# Altium integrated library Linear Technology Power Management Power Control.IntLib: 661 symbols (part 13 of 43)
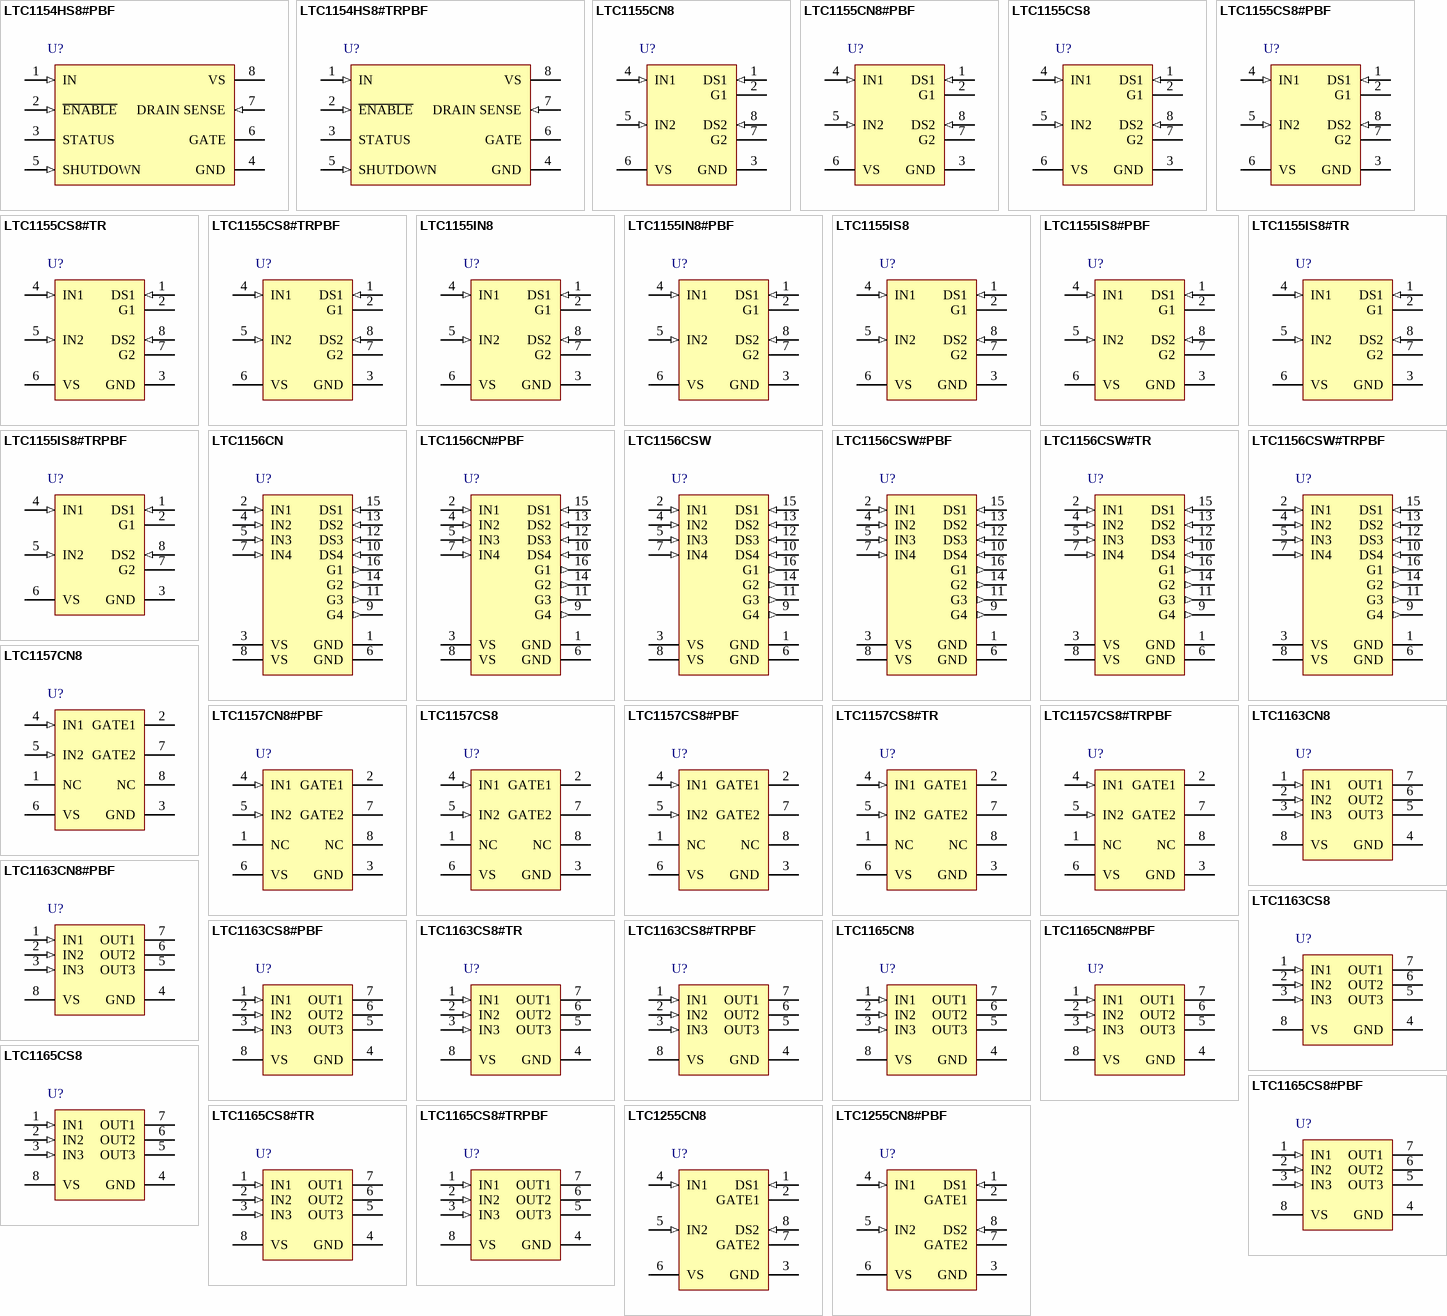
[diagram p31: symbols LTC1154HS8#PBF to LTC1255CN8#PBF]

## LTC1155CS8
designator U?
Dual High Side Micropower MOSFET Driver, 4.5 to 18 V Vin, 8-pin SOIC (S8-8), 0 to 70 degC; Manufacturer: Linear Technology; PartNumber: LTC1155CS8; DatasheetVersion: Rev. B; PackageVersion: Rev. G, 03/2012; PackageReference: S8-8; PackageDescription: 8-Pin Plastic Small Outline (Narrow .150 Inch), Body 4.9 x 3.9 mm, Pitch 1.27 mm; Supplier 1: Digi-Key; Supplier Part Number 1: LTC1155CS8-ND; Supplier 2: Newark; Supplier Part Number 2: 55M9441; RoHS: FALSE; Mounting Technology: Surface Mount; ComponentLink1Description: Manufacturer URL; ComponentLink1URL: http://www.linear.com/; ComponentLink2Description: Datasheet; ComponentLink2URL: http://cds.linear.com/docs/en/datasheet/1155fb.pdf; ComponentLink3Description: Package Specification; ComponentLink3URL: http://cds.linear.com/docs/en/packaging/05081610_G_SO8.pdf
footprint LT-S8-8_N (SOIC, 8-Leads, Body 5x4mm, Pitch 1.27mm, IPC Medium Density)
footprint LT-S8-8_L (SOIC, 8-Leads, Body 5x4mm, Pitch 1.27mm, IPC High Density)
footprint LT-S8-8_M (SOIC, 8-Leads, Body 5x4mm, Pitch 1.27mm, IPC Low Density)
pins: 1 DS1 (in) "As noted previously, the drain sense pin is compared against the supply pin voltage. If the voltage at this pin is more than 100mV below the supply pin, the input latch will be reset and the MOSFET gate will be quickly (See Datasheet)", 2 G1 (hiz) "The gate drive pin is either driven to ground when the switch is turned OFF or driven above the supply rail when the switch is turned ON. This pin is a relatively high impedance when driven above the rail (the equivalent of (See Datasheet)", 3 GND (power) "The supply pin of the LTC1155 serves two vital purposes. The first is obvious: it powers the input, gate drive, regulation and protection circuitry. The second purpose is less obvious: it provides a Kelvin connection to the (See Datasheet)", 4 IN1 (in) "The LTC1155 logic input is a high impedance CMOS gate and should be grounded when not in use. These input pins have ESD protection diodes to ground and supply and, therefore, should not be forced beyond the power supply (See Datasheet)", 5 IN2 (in) "The LTC1155 logic input is a high impedance CMOS gate and should be grounded when not in use. These input pins have ESD protection diodes to ground and supply and, therefore, should not be forced beyond the power supply (See Datasheet)", 6 VS (power) "The supply pin of the LTC1155 serves two vital purposes. The first is obvious: it powers the input, gate drive, regulation and protection circuitry. The second purpose is less obvious: it provides a Kelvin connection to the (See Datasheet)", 7 G2 (hiz) "The gate drive pin is either driven to ground when the switch is turned OFF or driven above the supply rail when the switch is turned ON. This pin is a relatively high impedance when driven above the rail (the equivalent of (See Datasheet)", 8 DS2 (in) "As noted previously, the drain sense pin is compared against the supply pin voltage. If the voltage at this pin is more than 100mV below the supply pin, the input latch will be reset and the MOSFET gate will be quickly (See Datasheet)"

## LTC1155CS8#PBF
designator U?
Dual High Side Micropower MOSFET Driver, 4.5 to 18 V Vin, 8-pin SOIC (S8-8), 0 to 70 degC, Pb-Free; Manufacturer: Linear Technology; PartNumber: LTC1155CS8#PBF; DatasheetVersion: Rev. B; PackageVersion: Rev. G, 03/2012; PackageReference: S8-8; PackageDescription: 8-Pin Plastic Small Outline (Narrow .150 Inch), Body 4.9 x 3.9 mm, Pitch 1.27 mm; Supplier 1: Digi-Key; Supplier Part Number 1: LTC1155CS8#PBF-ND; Supplier 2: Farnell; Supplier Part Number 2: 1273506; Supplier 3: Newark; Supplier Part Number 3: 55M9442; RoHS: TRUE; Mounting Technology: Surface Mount; ComponentLink1Description: Manufacturer URL; ComponentLink1URL: http://www.linear.com/; ComponentLink2Description: Datasheet; ComponentLink2URL: http://cds.linear.com/docs/en/datasheet/1155fb.pdf; ComponentLink3Description: Package Specification; ComponentLink3URL: http://cds.linear.com/docs/en/packaging/05081610_G_SO8.pdf
footprint LT-S8-8_N (SOIC, 8-Leads, Body 5x4mm, Pitch 1.27mm, IPC Medium Density)
footprint LT-S8-8_L (SOIC, 8-Leads, Body 5x4mm, Pitch 1.27mm, IPC High Density)
footprint LT-S8-8_M (SOIC, 8-Leads, Body 5x4mm, Pitch 1.27mm, IPC Low Density)
pins: 1 DS1 (in) "As noted previously, the drain sense pin is compared against the supply pin voltage. If the voltage at this pin is more than 100mV below the supply pin, the input latch will be reset and the MOSFET gate will be quickly (See Datasheet)", 2 G1 (hiz) "The gate drive pin is either driven to ground when the switch is turned OFF or driven above the supply rail when the switch is turned ON. This pin is a relatively high impedance when driven above the rail (the equivalent of (See Datasheet)", 3 GND (power) "The supply pin of the LTC1155 serves two vital purposes. The first is obvious: it powers the input, gate drive, regulation and protection circuitry. The second purpose is less obvious: it provides a Kelvin connection to the (See Datasheet)", 4 IN1 (in) "The LTC1155 logic input is a high impedance CMOS gate and should be grounded when not in use. These input pins have ESD protection diodes to ground and supply and, therefore, should not be forced beyond the power supply (See Datasheet)", 5 IN2 (in) "The LTC1155 logic input is a high impedance CMOS gate and should be grounded when not in use. These input pins have ESD protection diodes to ground and supply and, therefore, should not be forced beyond the power supply (See Datasheet)", 6 VS (power) "The supply pin of the LTC1155 serves two vital purposes. The first is obvious: it powers the input, gate drive, regulation and protection circuitry. The second purpose is less obvious: it provides a Kelvin connection to the (See Datasheet)", 7 G2 (hiz) "The gate drive pin is either driven to ground when the switch is turned OFF or driven above the supply rail when the switch is turned ON. This pin is a relatively high impedance when driven above the rail (the equivalent of (See Datasheet)", 8 DS2 (in) "As noted previously, the drain sense pin is compared against the supply pin voltage. If the voltage at this pin is more than 100mV below the supply pin, the input latch will be reset and the MOSFET gate will be quickly (See Datasheet)"

## LTC1155CS8#TR
designator U?
Dual High Side Micropower MOSFET Driver, 4.5 to 18 V Vin, 8-pin SOIC (S8-8), 0 to 70 degC, Tape and Reel; Manufacturer: Linear Technology; PartNumber: LTC1155CS8#TR; DatasheetVersion: Rev. B; PackageVersion: Rev. G, 03/2012; PackageReference: S8-8; PackageDescription: 8-Pin Plastic Small Outline (Narrow .150 Inch), Body 4.9 x 3.9 mm, Pitch 1.27 mm; Supplier 1: Digi-Key; Supplier Part Number 1: LTC1155CS8#TR-ND; Supplier 2: Newark; Supplier Part Number 2: 55M9443; Packing: Tape and Reel; RoHS: FALSE; Mounting Technology: Surface Mount; ComponentLink1Description: Manufacturer URL; ComponentLink1URL: http://www.linear.com/; ComponentLink2Description: Datasheet; ComponentLink2URL: http://cds.linear.com/docs/en/datasheet/1155fb.pdf; ComponentLink3Description: Package Specification; ComponentLink3URL: http://cds.linear.com/docs/en/packaging/05081610_G_SO8.pdf
footprint LT-S8-8_N (SOIC, 8-Leads, Body 5x4mm, Pitch 1.27mm, IPC Medium Density)
footprint LT-S8-8_L (SOIC, 8-Leads, Body 5x4mm, Pitch 1.27mm, IPC High Density)
footprint LT-S8-8_M (SOIC, 8-Leads, Body 5x4mm, Pitch 1.27mm, IPC Low Density)
pins: 1 DS1 (in) "As noted previously, the drain sense pin is compared against the supply pin voltage. If the voltage at this pin is more than 100mV below the supply pin, the input latch will be reset and the MOSFET gate will be quickly (See Datasheet)", 2 G1 (hiz) "The gate drive pin is either driven to ground when the switch is turned OFF or driven above the supply rail when the switch is turned ON. This pin is a relatively high impedance when driven above the rail (the equivalent of (See Datasheet)", 3 GND (power) "The supply pin of the LTC1155 serves two vital purposes. The first is obvious: it powers the input, gate drive, regulation and protection circuitry. The second purpose is less obvious: it provides a Kelvin connection to the (See Datasheet)", 4 IN1 (in) "The LTC1155 logic input is a high impedance CMOS gate and should be grounded when not in use. These input pins have ESD protection diodes to ground and supply and, therefore, should not be forced beyond the power supply (See Datasheet)", 5 IN2 (in) "The LTC1155 logic input is a high impedance CMOS gate and should be grounded when not in use. These input pins have ESD protection diodes to ground and supply and, therefore, should not be forced beyond the power supply (See Datasheet)", 6 VS (power) "The supply pin of the LTC1155 serves two vital purposes. The first is obvious: it powers the input, gate drive, regulation and protection circuitry. The second purpose is less obvious: it provides a Kelvin connection to the (See Datasheet)", 7 G2 (hiz) "The gate drive pin is either driven to ground when the switch is turned OFF or driven above the supply rail when the switch is turned ON. This pin is a relatively high impedance when driven above the rail (the equivalent of (See Datasheet)", 8 DS2 (in) "As noted previously, the drain sense pin is compared against the supply pin voltage. If the voltage at this pin is more than 100mV below the supply pin, the input latch will be reset and the MOSFET gate will be quickly (See Datasheet)"

## LTC1155CS8#TRPBF
designator U?
Dual High Side Micropower MOSFET Driver, 4.5 to 18 V Vin, 8-pin SOIC (S8-8), 0 to 70 degC, Pb-Free, Tape and Reel; Manufacturer: Linear Technology; PartNumber: LTC1155CS8#TRPBF; DatasheetVersion: Rev. B; PackageVersion: Rev. G, 03/2012; PackageReference: S8-8; PackageDescription: 8-Pin Plastic Small Outline (Narrow .150 Inch), Body 4.9 x 3.9 mm, Pitch 1.27 mm; Supplier 1: Digi-Key; Supplier Part Number 1: LTC1155CS8#TRPBF-ND; Supplier 2: Newark; Supplier Part Number 2: 55M9444; Packing: Tape and Reel; RoHS: TRUE; Mounting Technology: Surface Mount; ComponentLink1Description: Manufacturer URL; ComponentLink1URL: http://www.linear.com/; ComponentLink2Description: Datasheet; ComponentLink2URL: http://cds.linear.com/docs/en/datasheet/1155fb.pdf; ComponentLink3Description: Package Specification; ComponentLink3URL: http://cds.linear.com/docs/en/packaging/05081610_G_SO8.pdf
footprint LT-S8-8_N (SOIC, 8-Leads, Body 5x4mm, Pitch 1.27mm, IPC Medium Density)
footprint LT-S8-8_L (SOIC, 8-Leads, Body 5x4mm, Pitch 1.27mm, IPC High Density)
footprint LT-S8-8_M (SOIC, 8-Leads, Body 5x4mm, Pitch 1.27mm, IPC Low Density)
pins: 1 DS1 (in) "As noted previously, the drain sense pin is compared against the supply pin voltage. If the voltage at this pin is more than 100mV below the supply pin, the input latch will be reset and the MOSFET gate will be quickly (See Datasheet)", 2 G1 (hiz) "The gate drive pin is either driven to ground when the switch is turned OFF or driven above the supply rail when the switch is turned ON. This pin is a relatively high impedance when driven above the rail (the equivalent of (See Datasheet)", 3 GND (power) "The supply pin of the LTC1155 serves two vital purposes. The first is obvious: it powers the input, gate drive, regulation and protection circuitry. The second purpose is less obvious: it provides a Kelvin connection to the (See Datasheet)", 4 IN1 (in) "The LTC1155 logic input is a high impedance CMOS gate and should be grounded when not in use. These input pins have ESD protection diodes to ground and supply and, therefore, should not be forced beyond the power supply (See Datasheet)", 5 IN2 (in) "The LTC1155 logic input is a high impedance CMOS gate and should be grounded when not in use. These input pins have ESD protection diodes to ground and supply and, therefore, should not be forced beyond the power supply (See Datasheet)", 6 VS (power) "The supply pin of the LTC1155 serves two vital purposes. The first is obvious: it powers the input, gate drive, regulation and protection circuitry. The second purpose is less obvious: it provides a Kelvin connection to the (See Datasheet)", 7 G2 (hiz) "The gate drive pin is either driven to ground when the switch is turned OFF or driven above the supply rail when the switch is turned ON. This pin is a relatively high impedance when driven above the rail (the equivalent of (See Datasheet)", 8 DS2 (in) "As noted previously, the drain sense pin is compared against the supply pin voltage. If the voltage at this pin is more than 100mV below the supply pin, the input latch will be reset and the MOSFET gate will be quickly (See Datasheet)"

## LTC1155IN8
designator U?
Dual High Side Micropower MOSFET Driver, 4.5 to 18 V Vin, 8-pin DIP (N8-8), -40 to 85 degC; Manufacturer: Linear Technology; PartNumber: LTC1155IN8; DatasheetVersion: Rev. B; PackageVersion: Rev. I, 07/2011; PackageReference: N8-8; PackageDescription: 8-Pin PDIP, Body 10.16 x 6.48 mm, Pitch 2.54 mm; Supplier 1: Digi-Key; Supplier Part Number 1: LTC1155IN8-ND; RoHS: FALSE; Mounting Technology: Through Hole; ComponentLink1Description: Manufacturer URL; ComponentLink1URL: http://www.linear.com/; ComponentLink2Description: Datasheet; ComponentLink2URL: http://cds.linear.com/docs/en/datasheet/1155fb.pdf; ComponentLink3Description: Package Specification; ComponentLink3URL: http://www.linear.com/docs/en/packaging/05081510_I_N8.pdf
footprint LT-N8-8 (DIP, 8-Leads, Body 10.15x6.85mm, Pitch 2.54mm)
pins: 1 DS1 (in) "As noted previously, the drain sense pin is compared against the supply pin voltage. If the voltage at this pin is more than 100mV below the supply pin, the input latch will be reset and the MOSFET gate will be quickly (See Datasheet)", 2 G1 (hiz) "The gate drive pin is either driven to ground when the switch is turned OFF or driven above the supply rail when the switch is turned ON. This pin is a relatively high impedance when driven above the rail (the equivalent of (See Datasheet)", 3 GND (power) "The supply pin of the LTC1155 serves two vital purposes. The first is obvious: it powers the input, gate drive, regulation and protection circuitry. The second purpose is less obvious: it provides a Kelvin connection to the (See Datasheet)", 4 IN1 (in) "The LTC1155 logic input is a high impedance CMOS gate and should be grounded when not in use. These input pins have ESD protection diodes to ground and supply and, therefore, should not be forced beyond the power supply (See Datasheet)", 5 IN2 (in) "The LTC1155 logic input is a high impedance CMOS gate and should be grounded when not in use. These input pins have ESD protection diodes to ground and supply and, therefore, should not be forced beyond the power supply (See Datasheet)", 6 VS (power) "The supply pin of the LTC1155 serves two vital purposes. The first is obvious: it powers the input, gate drive, regulation and protection circuitry. The second purpose is less obvious: it provides a Kelvin connection to the (See Datasheet)", 7 G2 (hiz) "The gate drive pin is either driven to ground when the switch is turned OFF or driven above the supply rail when the switch is turned ON. This pin is a relatively high impedance when driven above the rail (the equivalent of (See Datasheet)", 8 DS2 (in) "As noted previously, the drain sense pin is compared against the supply pin voltage. If the voltage at this pin is more than 100mV below the supply pin, the input latch will be reset and the MOSFET gate will be quickly (See Datasheet)"

## LTC1155IN8#PBF
designator U?
Dual High Side Micropower MOSFET Driver, 4.5 to 18 V Vin, 8-pin DIP (N8-8), -40 to 85 degC, Pb-Free; Manufacturer: Linear Technology; PartNumber: LTC1155IN8#PBF; DatasheetVersion: Rev. B; PackageVersion: Rev. I, 07/2011; PackageReference: N8-8; PackageDescription: 8-Pin PDIP, Body 10.16 x 6.48 mm, Pitch 2.54 mm; Supplier 1: Digi-Key; Supplier Part Number 1: LTC1155IN8#PBF-ND; RoHS: TRUE; Mounting Technology: Through Hole; ComponentLink1Description: Manufacturer URL; ComponentLink1URL: http://www.linear.com/; ComponentLink2Description: Datasheet; ComponentLink2URL: http://cds.linear.com/docs/en/datasheet/1155fb.pdf; ComponentLink3Description: Package Specification; ComponentLink3URL: http://www.linear.com/docs/en/packaging/05081510_I_N8.pdf
footprint LT-N8-8 (DIP, 8-Leads, Body 10.15x6.85mm, Pitch 2.54mm)
pins: 1 DS1 (in) "As noted previously, the drain sense pin is compared against the supply pin voltage. If the voltage at this pin is more than 100mV below the supply pin, the input latch will be reset and the MOSFET gate will be quickly (See Datasheet)", 2 G1 (hiz) "The gate drive pin is either driven to ground when the switch is turned OFF or driven above the supply rail when the switch is turned ON. This pin is a relatively high impedance when driven above the rail (the equivalent of (See Datasheet)", 3 GND (power) "The supply pin of the LTC1155 serves two vital purposes. The first is obvious: it powers the input, gate drive, regulation and protection circuitry. The second purpose is less obvious: it provides a Kelvin connection to the (See Datasheet)", 4 IN1 (in) "The LTC1155 logic input is a high impedance CMOS gate and should be grounded when not in use. These input pins have ESD protection diodes to ground and supply and, therefore, should not be forced beyond the power supply (See Datasheet)", 5 IN2 (in) "The LTC1155 logic input is a high impedance CMOS gate and should be grounded when not in use. These input pins have ESD protection diodes to ground and supply and, therefore, should not be forced beyond the power supply (See Datasheet)", 6 VS (power) "The supply pin of the LTC1155 serves two vital purposes. The first is obvious: it powers the input, gate drive, regulation and protection circuitry. The second purpose is less obvious: it provides a Kelvin connection to the (See Datasheet)", 7 G2 (hiz) "The gate drive pin is either driven to ground when the switch is turned OFF or driven above the supply rail when the switch is turned ON. This pin is a relatively high impedance when driven above the rail (the equivalent of (See Datasheet)", 8 DS2 (in) "As noted previously, the drain sense pin is compared against the supply pin voltage. If the voltage at this pin is more than 100mV below the supply pin, the input latch will be reset and the MOSFET gate will be quickly (See Datasheet)"

## LTC1155IS8
designator U?
Dual High Side Micropower MOSFET Driver, 4.5 to 18 V Vin, 8-pin SOIC (S8-8), -40 to 85 degC; Manufacturer: Linear Technology; PartNumber: LTC1155IS8; DatasheetVersion: Rev. B; PackageVersion: Rev. G, 03/2012; PackageReference: S8-8; PackageDescription: 8-Pin Plastic Small Outline (Narrow .150 Inch), Body 4.9 x 3.9 mm, Pitch 1.27 mm; Supplier 1: Digi-Key; Supplier Part Number 1: LTC1155IS8-ND; RoHS: FALSE; Mounting Technology: Surface Mount; ComponentLink1Description: Manufacturer URL; ComponentLink1URL: http://www.linear.com/; ComponentLink2Description: Datasheet; ComponentLink2URL: http://cds.linear.com/docs/en/datasheet/1155fb.pdf; ComponentLink3Description: Package Specification; ComponentLink3URL: http://cds.linear.com/docs/en/packaging/05081610_G_SO8.pdf
footprint LT-S8-8_N (SOIC, 8-Leads, Body 5x4mm, Pitch 1.27mm, IPC Medium Density)
footprint LT-S8-8_L (SOIC, 8-Leads, Body 5x4mm, Pitch 1.27mm, IPC High Density)
footprint LT-S8-8_M (SOIC, 8-Leads, Body 5x4mm, Pitch 1.27mm, IPC Low Density)
pins: 1 DS1 (in) "As noted previously, the drain sense pin is compared against the supply pin voltage. If the voltage at this pin is more than 100mV below the supply pin, the input latch will be reset and the MOSFET gate will be quickly (See Datasheet)", 2 G1 (hiz) "The gate drive pin is either driven to ground when the switch is turned OFF or driven above the supply rail when the switch is turned ON. This pin is a relatively high impedance when driven above the rail (the equivalent of (See Datasheet)", 3 GND (power) "The supply pin of the LTC1155 serves two vital purposes. The first is obvious: it powers the input, gate drive, regulation and protection circuitry. The second purpose is less obvious: it provides a Kelvin connection to the (See Datasheet)", 4 IN1 (in) "The LTC1155 logic input is a high impedance CMOS gate and should be grounded when not in use. These input pins have ESD protection diodes to ground and supply and, therefore, should not be forced beyond the power supply (See Datasheet)", 5 IN2 (in) "The LTC1155 logic input is a high impedance CMOS gate and should be grounded when not in use. These input pins have ESD protection diodes to ground and supply and, therefore, should not be forced beyond the power supply (See Datasheet)", 6 VS (power) "The supply pin of the LTC1155 serves two vital purposes. The first is obvious: it powers the input, gate drive, regulation and protection circuitry. The second purpose is less obvious: it provides a Kelvin connection to the (See Datasheet)", 7 G2 (hiz) "The gate drive pin is either driven to ground when the switch is turned OFF or driven above the supply rail when the switch is turned ON. This pin is a relatively high impedance when driven above the rail (the equivalent of (See Datasheet)", 8 DS2 (in) "As noted previously, the drain sense pin is compared against the supply pin voltage. If the voltage at this pin is more than 100mV below the supply pin, the input latch will be reset and the MOSFET gate will be quickly (See Datasheet)"

## LTC1155IS8#PBF
designator U?
Dual High Side Micropower MOSFET Driver, 4.5 to 18 V Vin, 8-pin SOIC (S8-8), -40 to 85 degC, Pb-Free; Manufacturer: Linear Technology; PartNumber: LTC1155IS8#PBF; DatasheetVersion: Rev. B; PackageVersion: Rev. G, 03/2012; PackageReference: S8-8; PackageDescription: 8-Pin Plastic Small Outline (Narrow .150 Inch), Body 4.9 x 3.9 mm, Pitch 1.27 mm; Supplier 1: Digi-Key; Supplier Part Number 1: LTC1155IS8#PBF-ND; Supplier 2: Newark; Supplier Part Number 2: 55M9447; RoHS: TRUE; Mounting Technology: Surface Mount; ComponentLink1Description: Manufacturer URL; ComponentLink1URL: http://www.linear.com/; ComponentLink2Description: Datasheet; ComponentLink2URL: http://cds.linear.com/docs/en/datasheet/1155fb.pdf; ComponentLink3Description: Package Specification; ComponentLink3URL: http://cds.linear.com/docs/en/packaging/05081610_G_SO8.pdf
footprint LT-S8-8_N (SOIC, 8-Leads, Body 5x4mm, Pitch 1.27mm, IPC Medium Density)
footprint LT-S8-8_L (SOIC, 8-Leads, Body 5x4mm, Pitch 1.27mm, IPC High Density)
footprint LT-S8-8_M (SOIC, 8-Leads, Body 5x4mm, Pitch 1.27mm, IPC Low Density)
pins: 1 DS1 (in) "As noted previously, the drain sense pin is compared against the supply pin voltage. If the voltage at this pin is more than 100mV below the supply pin, the input latch will be reset and the MOSFET gate will be quickly (See Datasheet)", 2 G1 (hiz) "The gate drive pin is either driven to ground when the switch is turned OFF or driven above the supply rail when the switch is turned ON. This pin is a relatively high impedance when driven above the rail (the equivalent of (See Datasheet)", 3 GND (power) "The supply pin of the LTC1155 serves two vital purposes. The first is obvious: it powers the input, gate drive, regulation and protection circuitry. The second purpose is less obvious: it provides a Kelvin connection to the (See Datasheet)", 4 IN1 (in) "The LTC1155 logic input is a high impedance CMOS gate and should be grounded when not in use. These input pins have ESD protection diodes to ground and supply and, therefore, should not be forced beyond the power supply (See Datasheet)", 5 IN2 (in) "The LTC1155 logic input is a high impedance CMOS gate and should be grounded when not in use. These input pins have ESD protection diodes to ground and supply and, therefore, should not be forced beyond the power supply (See Datasheet)", 6 VS (power) "The supply pin of the LTC1155 serves two vital purposes. The first is obvious: it powers the input, gate drive, regulation and protection circuitry. The second purpose is less obvious: it provides a Kelvin connection to the (See Datasheet)", 7 G2 (hiz) "The gate drive pin is either driven to ground when the switch is turned OFF or driven above the supply rail when the switch is turned ON. This pin is a relatively high impedance when driven above the rail (the equivalent of (See Datasheet)", 8 DS2 (in) "As noted previously, the drain sense pin is compared against the supply pin voltage. If the voltage at this pin is more than 100mV below the supply pin, the input latch will be reset and the MOSFET gate will be quickly (See Datasheet)"

## LTC1155IS8#TR
designator U?
Dual High Side Micropower MOSFET Driver, 4.5 to 18 V Vin, 8-pin SOIC (S8-8), -40 to 85 degC, Tape and Reel; Manufacturer: Linear Technology; PartNumber: LTC1155IS8#TR; DatasheetVersion: Rev. B; PackageVersion: Rev. G, 03/2012; PackageReference: S8-8; PackageDescription: 8-Pin Plastic Small Outline (Narrow .150 Inch), Body 4.9 x 3.9 mm, Pitch 1.27 mm; Supplier 1: Digi-Key; Supplier Part Number 1: LTC1155IS8#TR-ND; Supplier 2: Newark; Supplier Part Number 2: 55M9448; Packing: Tape and Reel; RoHS: FALSE; Mounting Technology: Surface Mount; ComponentLink1Description: Manufacturer URL; ComponentLink1URL: http://www.linear.com/; ComponentLink2Description: Datasheet; ComponentLink2URL: http://cds.linear.com/docs/en/datasheet/1155fb.pdf; ComponentLink3Description: Package Specification; ComponentLink3URL: http://cds.linear.com/docs/en/packaging/05081610_G_SO8.pdf
footprint LT-S8-8_N (SOIC, 8-Leads, Body 5x4mm, Pitch 1.27mm, IPC Medium Density)
footprint LT-S8-8_L (SOIC, 8-Leads, Body 5x4mm, Pitch 1.27mm, IPC High Density)
footprint LT-S8-8_M (SOIC, 8-Leads, Body 5x4mm, Pitch 1.27mm, IPC Low Density)
pins: 1 DS1 (in) "As noted previously, the drain sense pin is compared against the supply pin voltage. If the voltage at this pin is more than 100mV below the supply pin, the input latch will be reset and the MOSFET gate will be quickly (See Datasheet)", 2 G1 (hiz) "The gate drive pin is either driven to ground when the switch is turned OFF or driven above the supply rail when the switch is turned ON. This pin is a relatively high impedance when driven above the rail (the equivalent of (See Datasheet)", 3 GND (power) "The supply pin of the LTC1155 serves two vital purposes. The first is obvious: it powers the input, gate drive, regulation and protection circuitry. The second purpose is less obvious: it provides a Kelvin connection to the (See Datasheet)", 4 IN1 (in) "The LTC1155 logic input is a high impedance CMOS gate and should be grounded when not in use. These input pins have ESD protection diodes to ground and supply and, therefore, should not be forced beyond the power supply (See Datasheet)", 5 IN2 (in) "The LTC1155 logic input is a high impedance CMOS gate and should be grounded when not in use. These input pins have ESD protection diodes to ground and supply and, therefore, should not be forced beyond the power supply (See Datasheet)", 6 VS (power) "The supply pin of the LTC1155 serves two vital purposes. The first is obvious: it powers the input, gate drive, regulation and protection circuitry. The second purpose is less obvious: it provides a Kelvin connection to the (See Datasheet)", 7 G2 (hiz) "The gate drive pin is either driven to ground when the switch is turned OFF or driven above the supply rail when the switch is turned ON. This pin is a relatively high impedance when driven above the rail (the equivalent of (See Datasheet)", 8 DS2 (in) "As noted previously, the drain sense pin is compared against the supply pin voltage. If the voltage at this pin is more than 100mV below the supply pin, the input latch will be reset and the MOSFET gate will be quickly (See Datasheet)"

## LTC1155IS8#TRPBF
designator U?
Dual High Side Micropower MOSFET Driver, 4.5 to 18 V Vin, 8-pin SOIC (S8-8), -40 to 85 degC, Pb-Free, Tape and Reel; Manufacturer: Linear Technology; PartNumber: LTC1155IS8#TRPBF; DatasheetVersion: Rev. B; PackageVersion: Rev. G, 03/2012; PackageReference: S8-8; PackageDescription: 8-Pin Plastic Small Outline (Narrow .150 Inch), Body 4.9 x 3.9 mm, Pitch 1.27 mm; Supplier 1: Digi-Key; Supplier Part Number 1: LTC1155IS8#TRPBF-ND; Supplier 2: Newark; Supplier Part Number 2: 55M9449; Packing: Tape and Reel; RoHS: TRUE; Mounting Technology: Surface Mount; ComponentLink1Description: Manufacturer URL; ComponentLink1URL: http://www.linear.com/; ComponentLink2Description: Datasheet; ComponentLink2URL: http://cds.linear.com/docs/en/datasheet/1155fb.pdf; ComponentLink3Description: Package Specification; ComponentLink3URL: http://cds.linear.com/docs/en/packaging/05081610_G_SO8.pdf
footprint LT-S8-8_N (SOIC, 8-Leads, Body 5x4mm, Pitch 1.27mm, IPC Medium Density)
footprint LT-S8-8_L (SOIC, 8-Leads, Body 5x4mm, Pitch 1.27mm, IPC High Density)
footprint LT-S8-8_M (SOIC, 8-Leads, Body 5x4mm, Pitch 1.27mm, IPC Low Density)
pins: 1 DS1 (in) "As noted previously, the drain sense pin is compared against the supply pin voltage. If the voltage at this pin is more than 100mV below the supply pin, the input latch will be reset and the MOSFET gate will be quickly (See Datasheet)", 2 G1 (hiz) "The gate drive pin is either driven to ground when the switch is turned OFF or driven above the supply rail when the switch is turned ON. This pin is a relatively high impedance when driven above the rail (the equivalent of (See Datasheet)", 3 GND (power) "The supply pin of the LTC1155 serves two vital purposes. The first is obvious: it powers the input, gate drive, regulation and protection circuitry. The second purpose is less obvious: it provides a Kelvin connection to the (See Datasheet)", 4 IN1 (in) "The LTC1155 logic input is a high impedance CMOS gate and should be grounded when not in use. These input pins have ESD protection diodes to ground and supply and, therefore, should not be forced beyond the power supply (See Datasheet)", 5 IN2 (in) "The LTC1155 logic input is a high impedance CMOS gate and should be grounded when not in use. These input pins have ESD protection diodes to ground and supply and, therefore, should not be forced beyond the power supply (See Datasheet)", 6 VS (power) "The supply pin of the LTC1155 serves two vital purposes. The first is obvious: it powers the input, gate drive, regulation and protection circuitry. The second purpose is less obvious: it provides a Kelvin connection to the (See Datasheet)", 7 G2 (hiz) "The gate drive pin is either driven to ground when the switch is turned OFF or driven above the supply rail when the switch is turned ON. This pin is a relatively high impedance when driven above the rail (the equivalent of (See Datasheet)", 8 DS2 (in) "As noted previously, the drain sense pin is compared against the supply pin voltage. If the voltage at this pin is more than 100mV below the supply pin, the input latch will be reset and the MOSFET gate will be quickly (See Datasheet)"

## LTC1156CN
designator U?
Quad High Side Micropower MOSFET Driver with Internal Charge Pump, 22 V Vin MAX, 16-pin DIP (N-16), 0 to 70 degC; Manufacturer: Linear Technology; PartNumber: LTC1156CN; DatasheetVersion: Rev. A; PackageVersion: Rev. I, 07/2011; PackageReference: N-16; PackageDescription: 16-Pin PDIP, Body 19.56 x 6.48 mm, Pitch 2.54 mm; Supplier 1: Digi-Key; Supplier Part Number 1: LTC1156CN-ND; RoHS: FALSE; Mounting Technology: Through Hole; ComponentLink1Description: Manufacturer URL; ComponentLink1URL: http://www.linear.com/; ComponentLink2Description: Datasheet; ComponentLink2URL: http://cds.linear.com/docs/en/datasheet/lt1156.pdf; ComponentLink3Description: Package Specification; ComponentLink3URL: http://cds.linear.com/docs/en/packaging/05081510_I_N16.pdf
footprint LT-N-16 (DIP, 16-Leads, Body 19.56x6.48mm, Pitch 2.54mm)
pins: 1 GND (power), 2 IN1 (in), 3 VS (power), 4 IN2 (in), 5 IN3 (in), 6 GND (power), 7 IN4 (in), 8 VS (power), 9 G4 (out), 10 DS4 (in), 11 G3 (out), 12 DS3 (in), 13 DS2 (in), 14 G2 (out), 15 DS1 (in), 16 G1 (out)

## LTC1156CN#PBF
designator U?
Quad High Side Micropower MOSFET Driver with Internal Charge Pump, 22 V Vin MAX, 16-pin DIP (N-16), 0 to 70 degC, Pb-Free; Manufacturer: Linear Technology; PartNumber: LTC1156CN#PBF; DatasheetVersion: Rev. A; PackageVersion: Rev. I, 07/2011; PackageReference: N-16; PackageDescription: 16-Pin PDIP, Body 19.56 x 6.48 mm, Pitch 2.54 mm; Supplier 1: Digi-Key; Supplier Part Number 1: LTC1156CN#PBF-ND; Supplier 2: Newark; Supplier Part Number 2: 55M9451; RoHS: TRUE; Mounting Technology: Through Hole; ComponentLink1Description: Manufacturer URL; ComponentLink1URL: http://www.linear.com/; ComponentLink2Description: Datasheet; ComponentLink2URL: http://cds.linear.com/docs/en/datasheet/lt1156.pdf; ComponentLink3Description: Package Specification; ComponentLink3URL: http://cds.linear.com/docs/en/packaging/05081510_I_N16.pdf
footprint LT-N-16 (DIP, 16-Leads, Body 19.56x6.48mm, Pitch 2.54mm)
pins: 1 GND (power), 2 IN1 (in), 3 VS (power), 4 IN2 (in), 5 IN3 (in), 6 GND (power), 7 IN4 (in), 8 VS (power), 9 G4 (out), 10 DS4 (in), 11 G3 (out), 12 DS3 (in), 13 DS2 (in), 14 G2 (out), 15 DS1 (in), 16 G1 (out)

## LTC1156CSW
designator U?
Quad High Side Micropower MOSFET Driver with Internal Charge Pump, 22 V Vin MAX, 16-pin SOIC (SW-16), 0 to 70 degC; Manufacturer: Linear Technology; PartNumber: LTC1156CSW; DatasheetVersion: Rev. A; PackageVersion: Jun-10; PackageReference: SW-16; PackageDescription: 16-Pin Plastic Small Outline, Body 10.30 x 7.49 mm, Pitch 1.27 mm; Supplier 1: Digi-Key; Supplier Part Number 1: LTC1156CSW-ND; RoHS: FALSE; Mounting Technology: Surface Mount; ComponentLink1Description: Manufacturer URL; ComponentLink1URL: http://www.linear.com/; ComponentLink2Description: Datasheet; ComponentLink2URL: http://cds.linear.com/docs/en/datasheet/lt1156.pdf; ComponentLink3Description: Package Specification; ComponentLink3URL: http://www.linear.com/docs/en/packaging/SO_16_05-08-1620.pdf
footprint LT-SW-16_N (SOIC, 16-Leads, Body 10.3x7.49mm, Pitch 1.27mm, IPC Medium Density)
footprint LT-SW-16_L (SOIC, 16-Leads, Body 10.3x7.49mm, Pitch 1.27mm, IPC High Density)
footprint LT-SW-16_M (SOIC, 16-Leads, Body 10.3x7.49mm, Pitch 1.27mm, IPC Low Density)
pins: 1 GND (power), 2 IN1 (in), 3 VS (power), 4 IN2 (in), 5 IN3 (in), 6 GND (power), 7 IN4 (in), 8 VS (power), 9 G4 (out), 10 DS4 (in), 11 G3 (out), 12 DS3 (in), 13 DS2 (in), 14 G2 (out), 15 DS1 (in), 16 G1 (out)

## LTC1156CSW#PBF
designator U?
Quad High Side Micropower MOSFET Driver with Internal Charge Pump, 22 V Vin MAX, 16-pin SOIC (SW-16), 0 to 70 degC, Pb-Free; Manufacturer: Linear Technology; PartNumber: LTC1156CSW#PBF; DatasheetVersion: Rev. A; PackageVersion: Jun-10; PackageReference: SW-16; PackageDescription: 16-Pin Plastic Small Outline, Body 10.30 x 7.49 mm, Pitch 1.27 mm; Supplier 1: Digi-Key; Supplier Part Number 1: LTC1156CSW#PBF-ND; Supplier 2: Farnell; Supplier Part Number 2: 1273507; Supplier 3: Newark; Supplier Part Number 3: 55M9453; RoHS: TRUE; Mounting Technology: Surface Mount; ComponentLink1Description: Manufacturer URL; ComponentLink1URL: http://www.linear.com/; ComponentLink2Description: Datasheet; ComponentLink2URL: http://cds.linear.com/docs/en/datasheet/lt1156.pdf; ComponentLink3Description: Package Specification; ComponentLink3URL: http://www.linear.com/docs/en/packaging/SO_16_05-08-1620.pdf
footprint LT-SW-16_N (SOIC, 16-Leads, Body 10.3x7.49mm, Pitch 1.27mm, IPC Medium Density)
footprint LT-SW-16_L (SOIC, 16-Leads, Body 10.3x7.49mm, Pitch 1.27mm, IPC High Density)
footprint LT-SW-16_M (SOIC, 16-Leads, Body 10.3x7.49mm, Pitch 1.27mm, IPC Low Density)
pins: 1 GND (power), 2 IN1 (in), 3 VS (power), 4 IN2 (in), 5 IN3 (in), 6 GND (power), 7 IN4 (in), 8 VS (power), 9 G4 (out), 10 DS4 (in), 11 G3 (out), 12 DS3 (in), 13 DS2 (in), 14 G2 (out), 15 DS1 (in), 16 G1 (out)

## LTC1156CSW#TR
designator U?
Quad High Side Micropower MOSFET Driver with Internal Charge Pump, 22 V Vin MAX, 16-pin SOIC (SW-16), 0 to 70 degC, Tape and Reel; Manufacturer: Linear Technology; PartNumber: LTC1156CSW#TR; DatasheetVersion: Rev. A; PackageVersion: Jun-10; PackageReference: SW-16; PackageDescription: 16-Pin Plastic Small Outline, Body 10.30 x 7.49 mm, Pitch 1.27 mm; Supplier 1: Digi-Key; Supplier Part Number 1: LTC1156CSW#TR-ND; Packing: Tape and Reel; RoHS: FALSE; Mounting Technology: Surface Mount; ComponentLink1Description: Manufacturer URL; ComponentLink1URL: http://www.linear.com/; ComponentLink2Description: Datasheet; ComponentLink2URL: http://cds.linear.com/docs/en/datasheet/lt1156.pdf; ComponentLink3Description: Package Specification; ComponentLink3URL: http://www.linear.com/docs/en/packaging/SO_16_05-08-1620.pdf
footprint LT-SW-16_N (SOIC, 16-Leads, Body 10.3x7.49mm, Pitch 1.27mm, IPC Medium Density)
footprint LT-SW-16_L (SOIC, 16-Leads, Body 10.3x7.49mm, Pitch 1.27mm, IPC High Density)
footprint LT-SW-16_M (SOIC, 16-Leads, Body 10.3x7.49mm, Pitch 1.27mm, IPC Low Density)
pins: 1 GND (power), 2 IN1 (in), 3 VS (power), 4 IN2 (in), 5 IN3 (in), 6 GND (power), 7 IN4 (in), 8 VS (power), 9 G4 (out), 10 DS4 (in), 11 G3 (out), 12 DS3 (in), 13 DS2 (in), 14 G2 (out), 15 DS1 (in), 16 G1 (out)

## LTC1156CSW#TRPBF
designator U?
Quad High Side Micropower MOSFET Driver with Internal Charge Pump, 22 V Vin MAX, 16-pin SOIC (SW-16), 0 to 70 degC, Pb-Free, Tape and Reel; Manufacturer: Linear Technology; PartNumber: LTC1156CSW#TRPBF; DatasheetVersion: Rev. A; PackageVersion: Jun-10; PackageReference: SW-16; PackageDescription: 16-Pin Plastic Small Outline, Body 10.30 x 7.49 mm, Pitch 1.27 mm; Supplier 1: Digi-Key; Supplier Part Number 1: LTC1156CSW#TRPBF-ND; Supplier 2: Newark; Supplier Part Number 2: 55M9455; Packing: Tape and Reel; RoHS: TRUE; Mounting Technology: Surface Mount; ComponentLink1Description: Manufacturer URL; ComponentLink1URL: http://www.linear.com/; ComponentLink2Description: Datasheet; ComponentLink2URL: http://cds.linear.com/docs/en/datasheet/lt1156.pdf; ComponentLink3Description: Package Specification; ComponentLink3URL: http://www.linear.com/docs/en/packaging/SO_16_05-08-1620.pdf
footprint LT-SW-16_N (SOIC, 16-Leads, Body 10.3x7.49mm, Pitch 1.27mm, IPC Medium Density)
footprint LT-SW-16_L (SOIC, 16-Leads, Body 10.3x7.49mm, Pitch 1.27mm, IPC High Density)
footprint LT-SW-16_M (SOIC, 16-Leads, Body 10.3x7.49mm, Pitch 1.27mm, IPC Low Density)
pins: 1 GND (power), 2 IN1 (in), 3 VS (power), 4 IN2 (in), 5 IN3 (in), 6 GND (power), 7 IN4 (in), 8 VS (power), 9 G4 (out), 10 DS4 (in), 11 G3 (out), 12 DS3 (in), 13 DS2 (in), 14 G2 (out), 15 DS1 (in), 16 G1 (out)

## LTC1157CN8
designator U?
3.3 V Dual Micropower High-Side / Low-Side MOSFET Driver, 7 V Vin MAX, 8-pin DIP (N8-8), 0 to 70 degC; Manufacturer: Linear Technology; PartNumber: LTC1157CN8; DatasheetVersion: Rev. 0; PackageVersion: Rev. I, 07/2011; PackageReference: N8-8; PackageDescription: 8-Pin PDIP, Body 10.16 x 6.48 mm, Pitch 2.54 mm; Supplier 1: Digi-Key; Supplier Part Number 1: LTC1157CN8-ND; RoHS: FALSE; Mounting Technology: Through Hole; ComponentLink1Description: Manufacturer URL; ComponentLink1URL: http://www.linear.com/; ComponentLink2Description: Datasheet; ComponentLink2URL: http://cds.linear.com/docs/en/datasheet/lt1157.pdf; ComponentLink3Description: Package Specification; ComponentLink3URL: http://www.linear.com/docs/en/packaging/05081510_I_N8.pdf
footprint LT-N8-8 (DIP, 8-Leads, Body 10.15x6.85mm, Pitch 2.54mm)
pins: 1 NC "The drain sense pin is compared against the supply pin voltage. If the voltage at this pin is more than 100mV below the supply pin, the input latch will be reset and the MOSFET gate will be quickly discharged. Cycle the (See Datasheet)", 2 GATE1 (hiz) "The gate drive pin is either driven to ground when the switch is turned OFF or driven above the supply rail when the switch is turned ON. This pin is a relatively high impedance when driven above the rail (the equivalent of (See Datasheet)", 3 GND (power), 4 IN1 (in) "The LTC1157 input pins are active high and activate the charge pump circuitry when switched ON. The LTC1157 logic inputs are high impedance CMOS gates with ESD protection diodes to ground and supply and therefore should not (See Datasheet)", 5 IN2 (in) "The LTC1157 input pins are active high and activate the charge pump circuitry when switched ON. The LTC1157 logic inputs are high impedance CMOS gates with ESD protection diodes to ground and supply and therefore should not (See Datasheet)", 6 VS (power) "The supply pin of the LTC1157 should never be forced below ground as this may result in permanent damage to the device. A 300 ohm resistor should be inserted in series with the ground pin if negative supply voltage (See Datasheet)", 7 GATE2 (hiz) "The gate drive pin is either driven to ground when the switch is turned OFF or driven above the supply rail when the switch is turned ON. This pin is a relatively high impedance when driven above the rail (the equivalent of (See Datasheet)", 8 NC "The drain sense pin is compared against the supply pin voltage. If the voltage at this pin is more than 100mV below the supply pin, the input latch will be reset and the MOSFET gate will be quickly discharged. Cycle the (See Datasheet)"

## LTC1157CN8#PBF
designator U?
3.3 V Dual Micropower High-Side / Low-Side MOSFET Driver, 7 V Vin MAX, 8-pin DIP (N8-8), 0 to 70 degC, Pb-Free; Manufacturer: Linear Technology; PartNumber: LTC1157CN8#PBF; DatasheetVersion: Rev. 0; PackageVersion: Rev. I, 07/2011; PackageReference: N8-8; PackageDescription: 8-Pin PDIP, Body 10.16 x 6.48 mm, Pitch 2.54 mm; Supplier 1: Digi-Key; Supplier Part Number 1: LTC1157CN8#PBF-ND; RoHS: TRUE; Mounting Technology: Through Hole; ComponentLink1Description: Manufacturer URL; ComponentLink1URL: http://www.linear.com/; ComponentLink2Description: Datasheet; ComponentLink2URL: http://cds.linear.com/docs/en/datasheet/lt1157.pdf; ComponentLink3Description: Package Specification; ComponentLink3URL: http://www.linear.com/docs/en/packaging/05081510_I_N8.pdf
footprint LT-N8-8 (DIP, 8-Leads, Body 10.15x6.85mm, Pitch 2.54mm)
pins: 1 NC "The drain sense pin is compared against the supply pin voltage. If the voltage at this pin is more than 100mV below the supply pin, the input latch will be reset and the MOSFET gate will be quickly discharged. Cycle the (See Datasheet)", 2 GATE1 (hiz) "The gate drive pin is either driven to ground when the switch is turned OFF or driven above the supply rail when the switch is turned ON. This pin is a relatively high impedance when driven above the rail (the equivalent of (See Datasheet)", 3 GND (power), 4 IN1 (in) "The LTC1157 input pins are active high and activate the charge pump circuitry when switched ON. The LTC1157 logic inputs are high impedance CMOS gates with ESD protection diodes to ground and supply and therefore should not (See Datasheet)", 5 IN2 (in) "The LTC1157 input pins are active high and activate the charge pump circuitry when switched ON. The LTC1157 logic inputs are high impedance CMOS gates with ESD protection diodes to ground and supply and therefore should not (See Datasheet)", 6 VS (power) "The supply pin of the LTC1157 should never be forced below ground as this may result in permanent damage to the device. A 300 ohm resistor should be inserted in series with the ground pin if negative supply voltage (See Datasheet)", 7 GATE2 (hiz) "The gate drive pin is either driven to ground when the switch is turned OFF or driven above the supply rail when the switch is turned ON. This pin is a relatively high impedance when driven above the rail (the equivalent of (See Datasheet)", 8 NC "The drain sense pin is compared against the supply pin voltage. If the voltage at this pin is more than 100mV below the supply pin, the input latch will be reset and the MOSFET gate will be quickly discharged. Cycle the (See Datasheet)"

## LTC1157CS8
designator U?
3.3 V Dual Micropower High-Side / Low-Side MOSFET Driver, 7 V Vin MAX, 8-pin SOIC (S8-8), 0 to 70 degC; Manufacturer: Linear Technology; PartNumber: LTC1157CS8; DatasheetVersion: Rev. 0; PackageVersion: Rev. G, 03/2012; PackageReference: S8-8; PackageDescription: 8-Pin Plastic Small Outline (Narrow .150 Inch), Body 4.9 x 3.9 mm, Pitch 1.27 mm; RoHS: FALSE; Mounting Technology: Surface Mount; ComponentLink1Description: Manufacturer URL; ComponentLink1URL: http://www.linear.com/; ComponentLink2Description: Datasheet; ComponentLink2URL: http://cds.linear.com/docs/en/datasheet/lt1157.pdf; ComponentLink3Description: Package Specification; ComponentLink3URL: http://cds.linear.com/docs/en/packaging/05081610_G_SO8.pdf
footprint LT-S8-8_N (SOIC, 8-Leads, Body 5x4mm, Pitch 1.27mm, IPC Medium Density)
footprint LT-S8-8_L (SOIC, 8-Leads, Body 5x4mm, Pitch 1.27mm, IPC High Density)
footprint LT-S8-8_M (SOIC, 8-Leads, Body 5x4mm, Pitch 1.27mm, IPC Low Density)
pins: 1 NC "The drain sense pin is compared against the supply pin voltage. If the voltage at this pin is more than 100mV below the supply pin, the input latch will be reset and the MOSFET gate will be quickly discharged. Cycle the (See Datasheet)", 2 GATE1 (hiz) "The gate drive pin is either driven to ground when the switch is turned OFF or driven above the supply rail when the switch is turned ON. This pin is a relatively high impedance when driven above the rail (the equivalent of (See Datasheet)", 3 GND (power), 4 IN1 (in) "The LTC1157 input pins are active high and activate the charge pump circuitry when switched ON. The LTC1157 logic inputs are high impedance CMOS gates with ESD protection diodes to ground and supply and therefore should not (See Datasheet)", 5 IN2 (in) "The LTC1157 input pins are active high and activate the charge pump circuitry when switched ON. The LTC1157 logic inputs are high impedance CMOS gates with ESD protection diodes to ground and supply and therefore should not (See Datasheet)", 6 VS (power) "The supply pin of the LTC1157 should never be forced below ground as this may result in permanent damage to the device. A 300 ohm resistor should be inserted in series with the ground pin if negative supply voltage (See Datasheet)", 7 GATE2 (hiz) "The gate drive pin is either driven to ground when the switch is turned OFF or driven above the supply rail when the switch is turned ON. This pin is a relatively high impedance when driven above the rail (the equivalent of (See Datasheet)", 8 NC "The drain sense pin is compared against the supply pin voltage. If the voltage at this pin is more than 100mV below the supply pin, the input latch will be reset and the MOSFET gate will be quickly discharged. Cycle the (See Datasheet)"

## LTC1157CS8#PBF
designator U?
3.3 V Dual Micropower High-Side / Low-Side MOSFET Driver, 7 V Vin MAX, 8-pin SOIC (S8-8), 0 to 70 degC, Pb-Free; Manufacturer: Linear Technology; PartNumber: LTC1157CS8#PBF; DatasheetVersion: Rev. 0; PackageVersion: Rev. G, 03/2012; PackageReference: S8-8; PackageDescription: 8-Pin Plastic Small Outline (Narrow .150 Inch), Body 4.9 x 3.9 mm, Pitch 1.27 mm; Supplier 1: Digi-Key; Supplier Part Number 1: LTC1157CS8#PBF-ND; Supplier 2: Newark; Supplier Part Number 2: 55M9459; RoHS: TRUE; Mounting Technology: Surface Mount; ComponentLink1Description: Manufacturer URL; ComponentLink1URL: http://www.linear.com/; ComponentLink2Description: Datasheet; ComponentLink2URL: http://cds.linear.com/docs/en/datasheet/lt1157.pdf; ComponentLink3Description: Package Specification; ComponentLink3URL: http://cds.linear.com/docs/en/packaging/05081610_G_SO8.pdf
footprint LT-S8-8_N (SOIC, 8-Leads, Body 5x4mm, Pitch 1.27mm, IPC Medium Density)
footprint LT-S8-8_L (SOIC, 8-Leads, Body 5x4mm, Pitch 1.27mm, IPC High Density)
footprint LT-S8-8_M (SOIC, 8-Leads, Body 5x4mm, Pitch 1.27mm, IPC Low Density)
pins: 1 NC "The drain sense pin is compared against the supply pin voltage. If the voltage at this pin is more than 100mV below the supply pin, the input latch will be reset and the MOSFET gate will be quickly discharged. Cycle the (See Datasheet)", 2 GATE1 (hiz) "The gate drive pin is either driven to ground when the switch is turned OFF or driven above the supply rail when the switch is turned ON. This pin is a relatively high impedance when driven above the rail (the equivalent of (See Datasheet)", 3 GND (power), 4 IN1 (in) "The LTC1157 input pins are active high and activate the charge pump circuitry when switched ON. The LTC1157 logic inputs are high impedance CMOS gates with ESD protection diodes to ground and supply and therefore should not (See Datasheet)", 5 IN2 (in) "The LTC1157 input pins are active high and activate the charge pump circuitry when switched ON. The LTC1157 logic inputs are high impedance CMOS gates with ESD protection diodes to ground and supply and therefore should not (See Datasheet)", 6 VS (power) "The supply pin of the LTC1157 should never be forced below ground as this may result in permanent damage to the device. A 300 ohm resistor should be inserted in series with the ground pin if negative supply voltage (See Datasheet)", 7 GATE2 (hiz) "The gate drive pin is either driven to ground when the switch is turned OFF or driven above the supply rail when the switch is turned ON. This pin is a relatively high impedance when driven above the rail (the equivalent of (See Datasheet)", 8 NC "The drain sense pin is compared against the supply pin voltage. If the voltage at this pin is more than 100mV below the supply pin, the input latch will be reset and the MOSFET gate will be quickly discharged. Cycle the (See Datasheet)"